# Altium footprint library Klema_PCB_15A.PcbLib: 1 footprints
Each footprint in its own frame and in the unit in brackets; x right, y up, seen from the top. Pads: shape width x height; smd on the part's side, far side on the other; paste and mask are expansions set on the pad; w line width, h text height; cw(c..) or ccw(c..) is an arc to the next point about the centre after c.
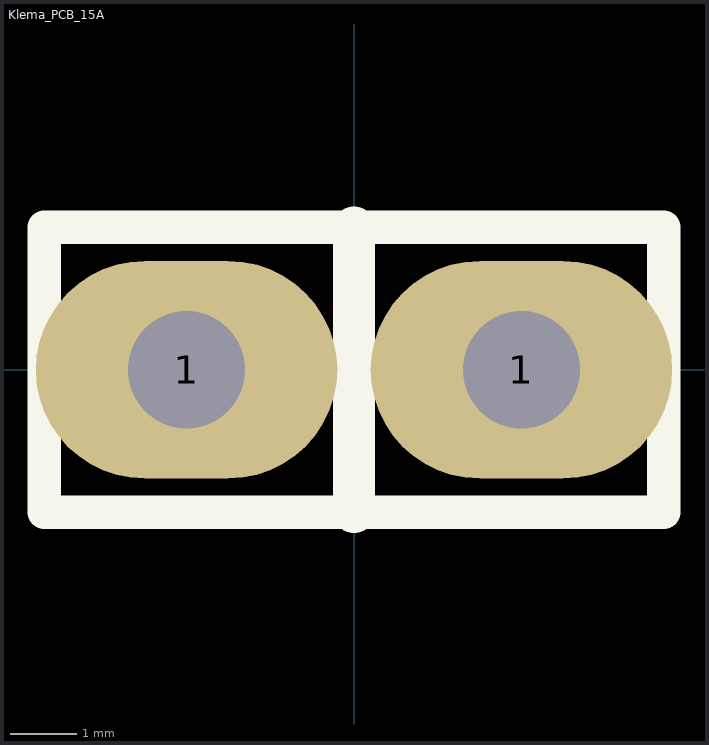
[diagram p0: the footprint, top view; thin cyan lines are the x and y axes]

## Klema_PCB_15A [mil]
pads (2):
  oval 180x130 hole 70: 1(-100,0) 1(100,0)
Top Overlay:
  lines w20: -185,-85 185,-85 185,85 -185,85 -185,-85
  lines w25: 0,-85 0,0 0,85
Bottom Overlay:
  lines w10: 0,0 0,85
  lines w25: 0,-85 0,85 ; -185,-95 185,-95 185,85 -185,85 -185,-95
3D body "Клема 15А.STEP": height 504.96, standoff -128.9, extent -161.42,-15.75 161.42,15.75